# EAGLE library part PINHD-2X3-SHROUDED (library custom-pinhead)
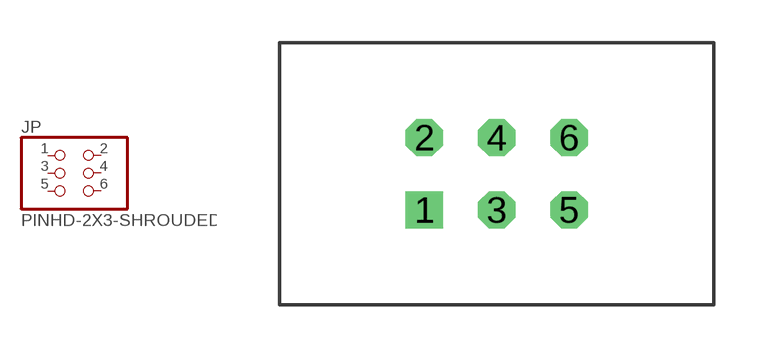
[diagram p45: symbol with the pads of 2X03-SHROUDED; footprint 2X03-SHROUDED]

Designator prefix JP

## PINHD-2X3-SHROUDED  [2X03-SHROUDED]
1  1  pas
2  2  pas
3  3  pas
4  4  pas
5  5  pas
6  6  pas

## Footprint 2X03-SHROUDED (pad centres in mm)
drill 0.8 square: 1 -2.54,-1.27
drill 0.8 octagon: 2 -2.54,1.27; 3 0,-1.27; 4 0,1.27; 5 2.54,-1.27; 6 2.54,1.27